# Altium footprint library TI-E13-2006.PcbLib: 1 footprints
Each footprint in its own frame and in the unit in brackets; x right, y up, seen from the top. Pads: shape width x height; smd on the part's side, far side on the other; paste and mask are expansions set on the pad; w line width, h text height; cw(c..) or ccw(c..) is an arc to the next point about the centre after c.
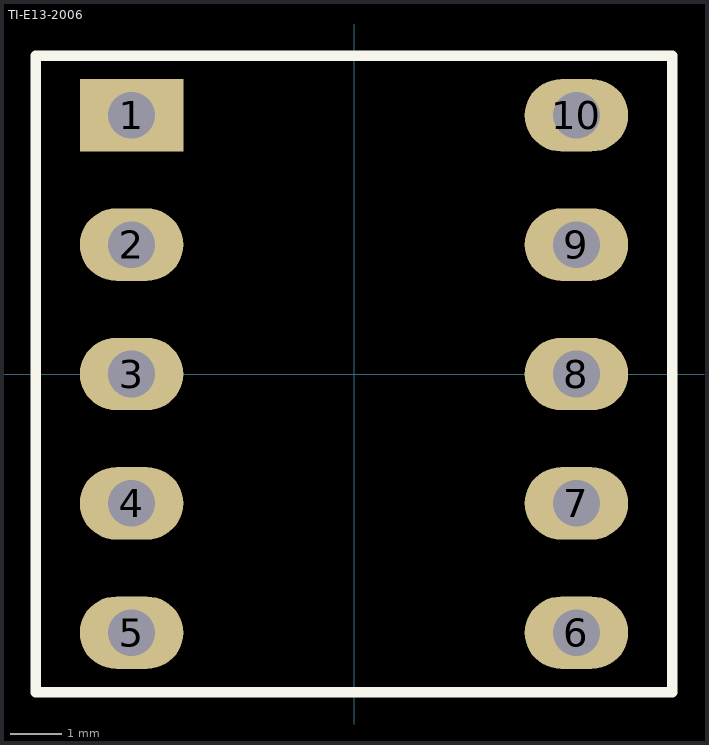
[diagram p0: the footprint, top view; thin cyan lines are the x and y axes]

## TI-E13-2006 [mm]
pads (10):
  rect 2x1.4 hole 0.9: 1(-4.3,5)
  oval 2x1.4 hole 0.9: 2(-4.3,2.5) 3(-4.3,0) 4(-4.3,-2.5) 5(-4.3,-5) 6(4.3,-5) 7(4.3,-2.5) 8(4.3,0) 9(4.3,2.5) 10(4.3,5)
Top Overlay:
  lines w0.203: -6.15,-6.15 6.15,-6.15 6.15,6.15 -6.15,6.15 -6.15,-6.15